# Altium integrated library WE-PF SMD EMI Suppression Power Ferrite.IntLib: 9 symbols
Pins are listed as number, name and electrical type; pins without a type are passive.

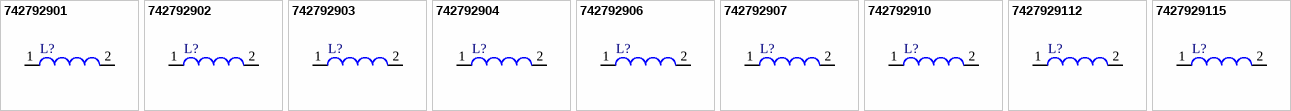
[diagram p0: symbols 742792901 to 7427929115]

## 742792901
designator L?
SMD EMI Suppression Power Ferrite WE-PF, Z = 2900 Ohm; PartNumber: 742792901; DatasheetVersion: ver 6, Apr-2007; PackageReference: WE-PF; PackageDescription: Inductor, 2-Leads, Body 12.0 x 12.0 mm; Impedance: 2900 Ohm; ComponentLink1Description: Manufacturer URL; ComponentLink1URL: http://www.we-online.com; ComponentLink2Description: Datasheet; ComponentLink2URL: http://www.we-online.de/katalog/media/pdf/742792901.pdf
footprint WE-PF (Inductor, 2-Leads, Body 12.0x12.0x8 mm)
pins: 1, 2

## 742792902
designator L?
SMD EMI Suppression Power Ferrite WE-PF, Z = 5000 Ohm; PartNumber: 742792902; DatasheetVersion: ver 6, Apr-2007; PackageReference: WE-PF; PackageDescription: Inductor, 2-Leads, Body 12.0 x 12.0 mm; Impedance: 5000 Ohm; ComponentLink1Description: Manufacturer URL; ComponentLink1URL: http://www.we-online.com; ComponentLink2Description: Datasheet; ComponentLink2URL: http://www.we-online.de/katalog/media/pdf/742792902.pdf
footprint WE-PF (Inductor, 2-Leads, Body 12.0x12.0x8 mm)
pins: 1, 2

## 742792903
designator L?
SMD EMI Suppression Power Ferrite WE-PF, Z = 6000 Ohm; PartNumber: 742792903; DatasheetVersion: ver 6, Apr-2007; PackageReference: WE-PF; PackageDescription: Inductor, 2-Leads, Body 12.0 x 12.0 mm; Impedance: 6000 Ohm; ComponentLink1Description: Manufacturer URL; ComponentLink1URL: http://www.we-online.com; ComponentLink2Description: Datasheet; ComponentLink2URL: http://www.we-online.de/katalog/media/pdf/742792903.pdf
footprint WE-PF (Inductor, 2-Leads, Body 12.0x12.0x8 mm)
pins: 1, 2

## 742792904
designator L?
SMD EMI Suppression Power Ferrite WE-PF, Z = 7000 Ohm; PartNumber: 742792904; DatasheetVersion: ver 6, Apr-2007; PackageReference: WE-PF; PackageDescription: Inductor, 2-Leads, Body 12.0 x 12.0 mm; Impedance: 7000 Ohm; ComponentLink1Description: Manufacturer URL; ComponentLink1URL: http://www.we-online.com; ComponentLink2Description: Datasheet; ComponentLink2URL: http://www.we-online.de/katalog/media/pdf/742792904.pdf
footprint WE-PF (Inductor, 2-Leads, Body 12.0x12.0x8 mm)
pins: 1, 2

## 742792906
designator L?
SMD EMI Suppression Power Ferrite WE-PF, Z = 9000 Ohm; PartNumber: 742792906; DatasheetVersion: ver 6, Apr-2007; PackageReference: WE-PF; PackageDescription: Inductor, 2-Leads, Body 12.0 x 12.0 mm; Impedance: 9000 Ohm; ComponentLink1Description: Manufacturer URL; ComponentLink1URL: http://www.we-online.com; ComponentLink2Description: Datasheet; ComponentLink2URL: http://www.we-online.de/katalog/media/pdf/742792906.pdf
footprint WE-PF (Inductor, 2-Leads, Body 12.0x12.0x8 mm)
pins: 1, 2

## 742792907
designator L?
SMD EMI Suppression Power Ferrite WE-PF, Z = 7500 Ohm; PartNumber: 742792907; DatasheetVersion: ver 6, Apr-2007; PackageReference: WE-PF; PackageDescription: Inductor, 2-Leads, Body 12.0 x 12.0 mm; Impedance: 7500 Ohm; ComponentLink1Description: Manufacturer URL; ComponentLink1URL: http://www.we-online.com; ComponentLink2Description: Datasheet; ComponentLink2URL: http://www.we-online.de/katalog/media/pdf/742792907.pdf
footprint WE-PF (Inductor, 2-Leads, Body 12.0x12.0x8 mm)
pins: 1, 2

## 742792910
designator L?
SMD EMI Suppression Power Ferrite WE-PF, Z = 8000 Ohm; PartNumber: 742792910; DatasheetVersion: ver 6, Apr-2007; PackageReference: WE-PF; PackageDescription: Inductor, 2-Leads, Body 12.0 x 12.0 mm; Impedance: 8000 Ohm; ComponentLink1Description: Manufacturer URL; ComponentLink1URL: http://www.we-online.com; ComponentLink2Description: Datasheet; ComponentLink2URL: http://www.we-online.de/katalog/media/pdf/742792910.pdf
footprint WE-PF (Inductor, 2-Leads, Body 12.0x12.0x8 mm)
pins: 1, 2

## 7427929112
designator L?
SMD EMI Suppression Power Ferrite WE-PF, Z = 13000 Ohm; PartNumber: 7427929112; DatasheetVersion: ver 6, Apr-2007; PackageReference: WE-PF; PackageDescription: Inductor, 2-Leads, Body 12.0 x 12.0 mm; Impedance: 13000 Ohm; ComponentLink1Description: Manufacturer URL; ComponentLink1URL: http://www.we-online.com; ComponentLink2Description: Datasheet; ComponentLink2URL: http://www.we-online.de/katalog/media/pdf/7427929112.pdf
footprint WE-PF (Inductor, 2-Leads, Body 12.0x12.0x8 mm)
pins: 1, 2

## 7427929115
designator L?
SMD EMI Suppression Power Ferrite WE-PF, Z = 15000 Ohm; PartNumber: 7427929115; DatasheetVersion: ver 6, Apr-2007; PackageReference: WE-PF; PackageDescription: Inductor, 2-Leads, Body 12.0 x 12.0 mm; Impedance: 15000 Ohm; ComponentLink1Description: Manufacturer URL; ComponentLink1URL: http://www.we-online.com; ComponentLink2Description: Datasheet; ComponentLink2URL: http://www.we-online.de/katalog/media/pdf/7427929115.pdf
footprint WE-PF (Inductor, 2-Leads, Body 12.0x12.0x8 mm)
pins: 1, 2